# Altium schematic symbol library pyptec-Schlib_jp.SchLib: 316 symbols (part 6 of 7)
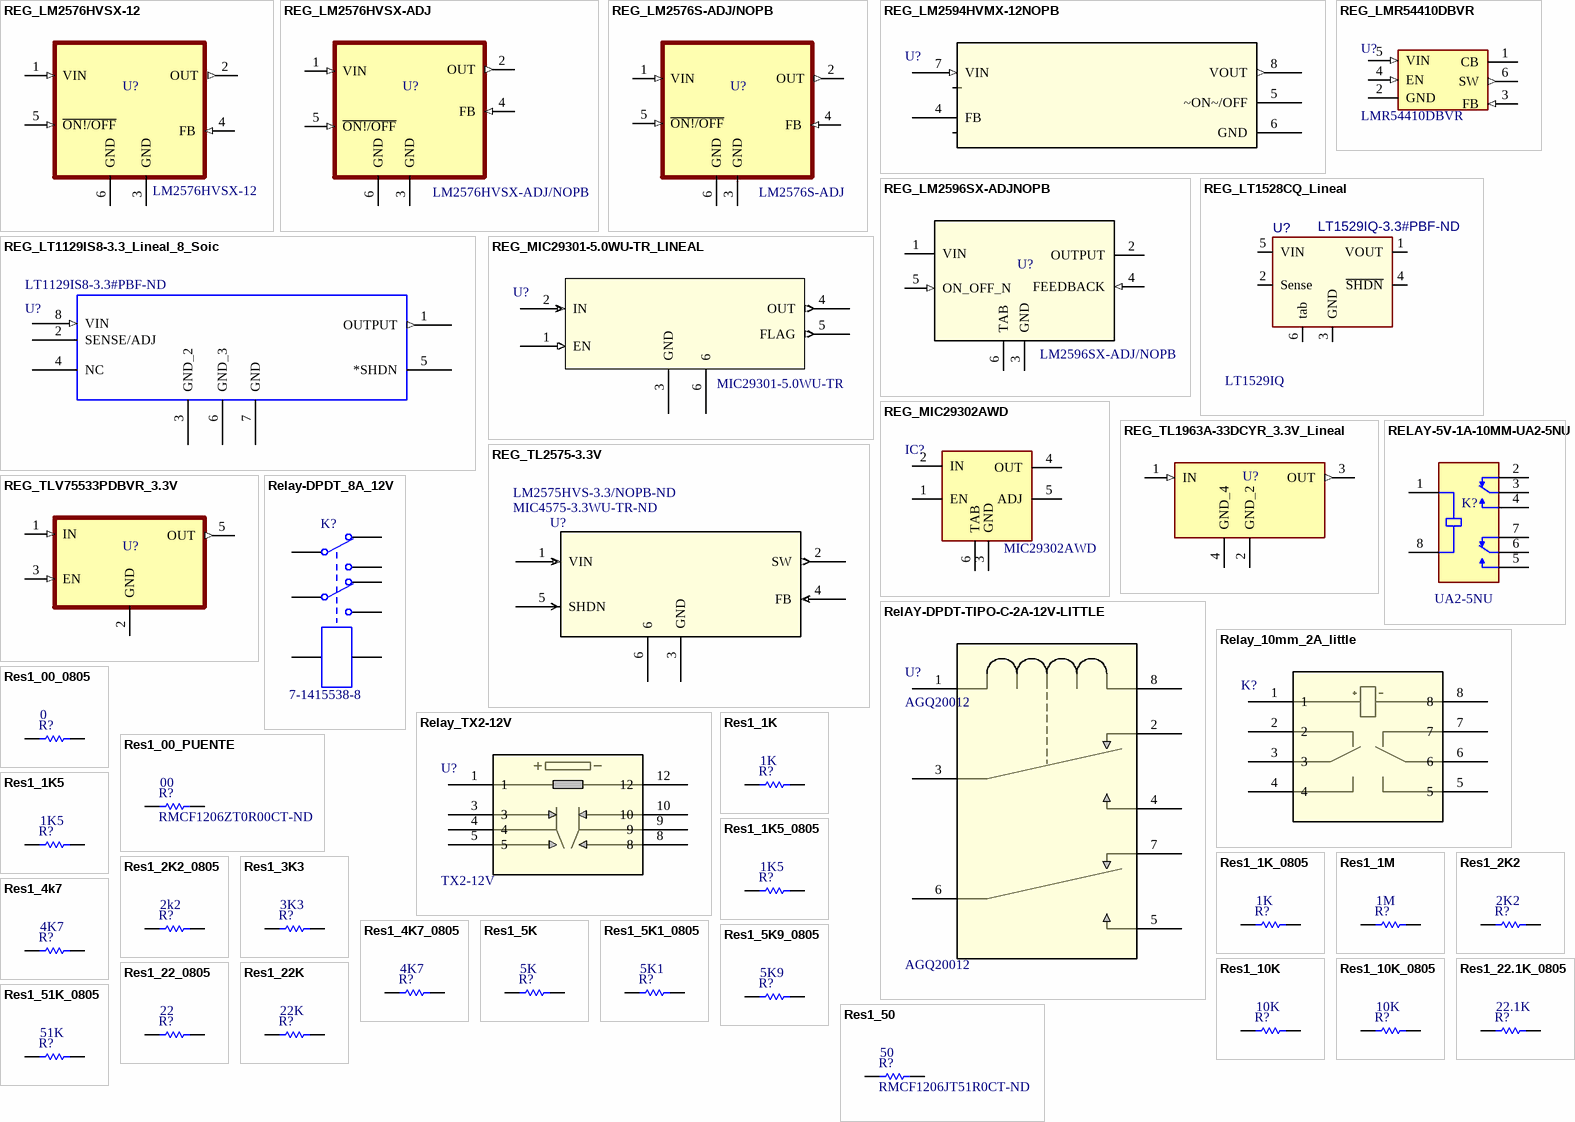
[diagram p15: symbols REG_LM2576HVSX-12 to Res1_51K_0805]

## Res1_1K
designator R?, comment value 1K  (hidden comment: 311-1.00KFRCT-ND)
RES 1K OH1 kOhms ±1% 0.25W, 1/4W Resistencia en microprocesador 1206 (3216 métrico) Resistente a la humedad Película gruesaM 1% 1/4W 1206; Manufacturer: Panasonic; Manufacturer Part Number: ERJ-8ENF5232V; Resistance: 52.3kR; Power Rating: 250mW; Voltage Rating: 200V; Temperature Coefficient: 100ppm/°C; Published: 8-Jun-2000; LatestRevisionDate: 17-Jul-2002; LatestRevisionNote: Re-released for DXP Platform.; PackageReference: AXIAL-0.3; Publisher: Altium Limited; PackageDescription: Axial Device, Thru-Hole; 2 Leads; 0.3 in Pin Spacing; Mount: Surface Mount; Case/Package: 1206; Case Code (Imperial): 1206; Case Code (Metric): 3216; Contact Plating: Tin; Min Operating Temperature: -55°C; Max Operating Temperature: 155°C; Tolerance: 1%; Packaging: Tape and Reel; Package Quantity: 1; Composition: Thick Film; Number of Terminations: 2; Max Power Dissipation: 250mW; Voltage Rating (DC): 200V; Features: Automotive AEC-Q200; Military Standard: Not; Termination: SMD/SMT; Length: 3.2mm; Height: 0.028inch; Width: 1.6mm; Depth: 1.6mm; REACH SVHC: Yes; ComponentLink1URL: http://www.farnell.com/datasheets/1678782.pdf?src-supplier=Farnell; ComponentLink1Description: http://www.farnell.com/datasheets/1678782.pdf?src-supplier=Farnell; ComponentLink2URL: http://industrial.panasonic.com/www-data/pdf/AOA0000/AOA0000CE2.pdf?src-supplier=Mouser; ComponentLink2Description: http://industrial.panasonic.com/www-data/pdf/AOA0000/AOA0000CE2.pdf?src-supplier=Mouser; Supplier 1: Digi-Key; Link: https://www.digikey.com/es/products/detail/yageo/RC1206FR-071KL/728387?s=N4IgTCBcDaIMwEYEFoEDoAMGDSAxASgMIAqyAcgCIgC6AvkA; Digi_Key_Part_Number: 311-1.00KFRCT-ND; ComponentLink3Description: RES 1K OHM 1% 1/4W 1206; ComponentLink3URL: https://www.digikey.com/es/products/detail/yageo/RC1206FR-071KL/728387?s=N4IgTCBcDaIMwEYEFoEDoAMGDSAxASgMIAqyAcgCIgC6AvkA; Price: 0,10; Supplier Part Number 1: 13-RC1206FR-132K2LDKR-ND
footprint RES1206
pins: 1, 2

## Res1_1K5
designator R?, comment value 1K5  (hidden comment: CRCW12061K50FKEAC)
1.5 kOhms ±1% 0.25W, 1/4W Resistencia en microprocesador 1206 (3216 métrico) Película gruesa; Manufacturer: Panasonic; Manufacturer Part Number: ERJ-8ENF5232V; Digi_Key_Part_Number: 541-4184-1-ND; Resistance: 52.3kR; Power Rating: 250mW; Voltage Rating: 200V; Temperature Coefficient: 100ppm/°C; Published: 8-Jun-2000; LatestRevisionDate: 17-Jul-2002; LatestRevisionNote: Re-released for DXP Platform.; PackageReference: AXIAL-0.3; Publisher: Altium Limited; PackageDescription: Axial Device, Thru-Hole; 2 Leads; 0.3 in Pin Spacing; Mount: Surface Mount; Case/Package: 1206; Case Code (Imperial): 1206; Case Code (Metric): 3216; Contact Plating: Tin; Min Operating Temperature: -55°C; Max Operating Temperature: 155°C; Tolerance: 1%; Packaging: Tape and Reel; Package Quantity: 1; Composition: Thick Film; Number of Terminations: 2; Max Power Dissipation: 250mW; Voltage Rating (DC): 200V; Features: Automotive AEC-Q200; Military Standard: Not; Termination: SMD/SMT; Length: 3.2mm; Height: 0.028inch; Width: 1.6mm; Depth: 1.6mm; REACH SVHC: Yes; Supplier 1: Digi-Key; Link: https://www.digikey.com/es/products/detail/vishay-dale/CRCW12061K50FKEAC/7928606; ComponentLink1Description: CRCW12061K50FKEAC; ComponentLink1URL: https://www.digikey.com/es/products/detail/vishay-dale/CRCW12061K50FKEAC/7928606; Supplier Part Number 1: 13-RC1206FR-132K2LDKR-ND; Price: 0,10
footprint RES1206
pins: 1, 2

## Res1_1K5_0805
designator R?, comment value 1K5  (hidden comment: RNCP0805FTD1K50)
1.5 kOhms ±1% 0.25W, 1/4W Resistencia en microprocesador 0805 (2012 métrico) Anti-azufre Película delgada; Digi_Key_Part_Number: RNCP0805FTD1K50CT-ND; Link: https://www.digikey.com/es/products/detail/stackpole-electronics-inc/RNCP0805FTD1K50/2240233; Price: 0,10; ComponentLink1Description: RES 1.5K OHM 1% 1/4W 0805; ComponentLink1URL: https://www.digikey.com/es/products/detail/stackpole-electronics-inc/RNCP0805FTD1K50/2240233; LCSC Part: C160067; Mouser Part: 708-RNCP0805FTD1K50; Price JLCPCB: 0,01
footprint RES0805
pins: 1, 2

## Res1_1K_0805
designator R?, comment value 1K  (hidden comment: RK73B2ATTD102J)
1 kOhms ±5% 0.25W, 1/4W Resistencia en microprocesador 0805 (2012 métrico) AEC-Q200 automotriz Película gruesa; Digi_Key_Part_Number: 2019-RK73B2ATTD102JCT-ND; Link: https://www.digikey.com/es/products/detail/koa-speer-electronics-inc/RK73B2ATTD102J/10236529; Price: 0,10; ComponentLink1Description: RES 1K OHM 5% 1/4W 0805; ComponentLink1URL: https://www.digikey.com/es/products/detail/koa-speer-electronics-inc/RK73B2ATTD102J/10236529; LCSC Part: C873867; Price JLCPCB: 0,01; Mouser Part: 660-RK73B2ATTD102J
footprint RES0805
pins: 1, 2

## Res1_1M
designator R?, comment value 1M  (hidden comment: YAG2022CT-ND)
RES SMD 1M OHM 0.1% 1/4W 1206; Manufacturer: Panasonic; Manufacturer Part Number: ERJ-8ENF5232V; Resistance: 52.3kR; Tolerance: 1%; Power Rating: 250mW; Voltage Rating: 200V; Temperature Coefficient: 100ppm/°C; Published: 8-Jun-2000; LatestRevisionDate: 17-Jul-2002; LatestRevisionNote: Re-released for DXP Platform.; PackageReference: AXIAL-0.3; Publisher: Altium Limited; PackageDescription: Axial Device, Thru-Hole; 2 Leads; 0.3 in Pin Spacing; Mount: Surface Mount; Case/Package: 1206; Case Code (Imperial): 1206; Case Code (Metric): 3216; Contact Plating: Tin; Min Operating Temperature: -55°C; Max Operating Temperature: 155°C; Packaging: Tape and Reel; Package Quantity: 1; Composition: Thick Film; Number of Terminations: 2; Max Power Dissipation: 250mW; Voltage Rating (DC): 200V; Features: Automotive AEC-Q200; Military Standard: Not; Termination: SMD/SMT; Length: 3.2mm; Height: 0.028inch; Width: 1.6mm; Depth: 1.6mm; REACH SVHC: Yes; ComponentLink1URL: http://www.farnell.com/datasheets/1678782.pdf?src-supplier=Farnell; ComponentLink1Description: http://www.farnell.com/datasheets/1678782.pdf?src-supplier=Farnell; ComponentLink2URL: http://industrial.panasonic.com/www-data/pdf/AOA0000/AOA0000CE2.pdf?src-supplier=Mouser; ComponentLink2Description: http://industrial.panasonic.com/www-data/pdf/AOA0000/AOA0000CE2.pdf?src-supplier=Mouser; Supplier 1: Digi-Key; Digi_Key_Part_Number: YAG2022CT-ND; Link: https://www.digikey.com/es/products/detail/RT1206BRD071ML/YAG2022DKR-ND/5140399?utm_campaign=buynow&utm_medium=aggregator&curr=usd&utm_source=octopart; Supplier Part Number 1: YAG2022DKR-ND; Price: 0,10
footprint RES1206
pins: 1, 2

## Res1_2K2
designator R?, comment value 2K2  (hidden comment: 311-2.20KFRCT-ND)
RES 2.2K OHM 1% 1/4W 1206; Link: https://www.digikey.com/es/products/detail/RC1206FR-072K2L/311-2.20KFRDKR-ND/734518?utm_campaign=buynow&utm_medium=aggregator&curr=usd&utm_source=octopart; Digi_Key_Part_Number: 311-2.20KFRCT-ND; ComponentLink3Description: RES 2.2K OHM 1% 1/4W 1206; ComponentLink3URL: https://www.digikey.com/es/products/detail/yageo/RC1206FR-072K2L/728624?s=N4IgTCBcDaIMwEYEFowDowAYDSAxASgMIAqyAcgCIgC6AvkA; Price: 0,10; JLCPCB Part: *
footprint RES1206
pins: 1, 2

## Res1_2K2_0805
designator R?, comment value 2k2  (hidden comment: SR0805JR-7W2K2L)
2.2 kOhms ±5% 0.25W, 1/4W Resistencia en microprocesador 0805 (2012 métrico) AEC-Q200 automotriz, protección contra impulsos Película gruesa; Digi_Key_Part_Number: YAG6054CT-ND; Link: https://www.digikey.com/es/products/detail/yageo/SR0805JR-7W2K2L/5948720; Price: 0,20; ComponentLink1Description: RES 2.2K OHM 5% 1/4W 0805; ComponentLink1URL: https://www.digikey.com/es/products/detail/yageo/SR0805JR-7W2K2L/5948720; LCSC Part: C17520; Price JLCPCB: 0,01; Mouser Part: 603-SR0805JR-7W2K2L
footprint RES0805
pins: 1, 2

## Res1_3K3
designator R?, comment value 3K3  (hidden comment: 311-3.3KERCT-ND)
3.3 kOhms ±5% 0.25W, 1/4W Chip Resistor 1206 (3216 Metric) Moisture Resistant Thick Film; Manufacturer: Panasonic; Manufacturer Part Number: ERJ-8ENF5232V; Resistance: 52.3kR; Tolerance: 1%; Power Rating: 250mW; Voltage Rating: 200V; Temperature Coefficient: 100ppm/°C; Published: 8-Jun-2000; LatestRevisionDate: 17-Jul-2002; LatestRevisionNote: Re-released for DXP Platform.; PackageReference: AXIAL-0.3; Publisher: Altium Limited; PackageDescription: Axial Device, Thru-Hole; 2 Leads; 0.3 in Pin Spacing; Mount: Surface Mount; Case/Package: 1206; Case Code (Imperial): 1206; Case Code (Metric): 3216; Contact Plating: Tin; Min Operating Temperature: -55°C; Max Operating Temperature: 155°C; Packaging: Tape and Reel; Package Quantity: 1; Composition: Thick Film; Number of Terminations: 2; Max Power Dissipation: 250mW; Voltage Rating (DC): 200V; Features: Automotive AEC-Q200; Military Standard: Not; Termination: SMD/SMT; Length: 3.2mm; Height: 0.028inch; Width: 1.6mm; Depth: 1.6mm; REACH SVHC: Yes; ComponentLink1URL: http://www.farnell.com/datasheets/1678782.pdf?src-supplier=Farnell; ComponentLink1Description: http://www.farnell.com/datasheets/1678782.pdf?src-supplier=Farnell; ComponentLink2URL: http://industrial.panasonic.com/www-data/pdf/AOA0000/AOA0000CE2.pdf?src-supplier=Mouser; ComponentLink2Description: http://industrial.panasonic.com/www-data/pdf/AOA0000/AOA0000CE2.pdf?src-supplier=Mouser; Supplier 1: Digi-Key; Digi_Key_Part_Number: 311-3.3KERCT-ND; Link: https://www.digikey.com/es/products/detail/RC1206JR-073K3L/311-3.3KERDKR-ND/735161?utm_campaign=buynow&utm_medium=aggregator&curr=usd&utm_source=octopart; ComponentLink3Description: RES 3.3K OHM 5% 1/4W 1206; ComponentLink3URL: https://www.digikey.com/es/products/detail/RC1206JR-073K3L/311-3.3KERDKR-ND/735161?utm_campaign=buynow&utm_medium=aggregator&curr=usd&utm_source=octopart; Supplier Part Number 1: 311-3.3KERDKR-ND; Price: 0,10
footprint RES1206
pins: 1, 2

## Res1_4k7
designator R?, comment value 4K7  (hidden comment: RMCF1206FT4K70CT-ND)
RES 4.7K OHM 1% 1/4W 1206; Manufacturer: Panasonic; Manufacturer Part Number: ERJ-8ENF5232V; Resistance: 52.3kR; Power Rating: 250mW; Voltage Rating: 200V; Temperature Coefficient: 100ppm/°C; Published: 8-Jun-2000; LatestRevisionDate: 17-Jul-2002; LatestRevisionNote: Re-released for DXP Platform.; PackageReference: AXIAL-0.3; Publisher: Altium Limited; PackageDescription: Axial Device, Thru-Hole; 2 Leads; 0.3 in Pin Spacing; Mount: Surface Mount; Case/Package: 1206; Case Code (Imperial): 1206; Case Code (Metric): 3216; Contact Plating: Tin; Min Operating Temperature: -55°C; Max Operating Temperature: 155°C; Tolerance: 1%; Packaging: Tape and Reel; Package Quantity: 1; Composition: Thick Film; Number of Terminations: 2; Max Power Dissipation: 250mW; Voltage Rating (DC): 200V; Features: Automotive AEC-Q200; Military Standard: Not; Termination: SMD/SMT; Length: 3.2mm; Height: 0.028inch; Width: 1.6mm; Depth: 1.6mm; REACH SVHC: Yes; ComponentLink1URL: http://www.farnell.com/datasheets/1678782.pdf?src-supplier=Farnell; ComponentLink1Description: http://www.farnell.com/datasheets/1678782.pdf?src-supplier=Farnell; ComponentLink2URL: http://industrial.panasonic.com/www-data/pdf/AOA0000/AOA0000CE2.pdf?src-supplier=Mouser; ComponentLink2Description: http://industrial.panasonic.com/www-data/pdf/AOA0000/AOA0000CE2.pdf?src-supplier=Mouser; Supplier 1: Digi-Key; Link: https://www.digikey.com/es/products/detail/RMCF1206FT4K70/RMCF1206FT4K70DKR-ND/1943603?utm_campaign=buynow&utm_medium=aggregator&curr=usd&utm_source=octopart; Digi_Key_Part_Number: RMCF1206FT4K70CT-ND; ComponentLink3Description: RES 4.7K OHM 1% 1/4W 1206; ComponentLink3URL: https://www.digikey.com/es/products/detail/stackpole-electronics-inc/RMCF1206FT4K70/1754008?s=N4IgTCBcDaIEoFkDCAxAjGADANhQFQBYBpAdkyTwFoA5AERAF0BfIA; Price: 0,10; Supplier Part Number 1: RMCF1206FT4K70DKR-ND
footprint RES1206
pins: 1, 2

## Res1_4K7_0805
designator R?, comment value 4K7  (hidden comment: CRCW08054K70FKEAC)
4.7 kOhms ±1% 0.125W, 1/8W Chip Resistor 0805 (2012 Metric) Thick Film; Digi_Key_Part_Number: 541-4131-1-ND; Link: https://www.digikey.com/en/products/detail/vishay-dale/CRCW08054K70FKEAC/7928553; Price: 0,10; ComponentLink1Description: RES 4.7K OHM 1% 1/8W 0805; ComponentLink1URL: https://www.digikey.com/en/products/detail/vishay-dale/CRCW08054K70FKEAC/7928553; LCSC Part: C844630; Mouser Part: 71-CRCW08054K70FKEAC; Price JLCPCB: 0,01
footprint RES0805
pins: 1, 2

## Res1_5K
designator R?, comment value 5K  (hidden comment: YAG5090CT-ND)
5 kOhms ±0.1% 0.25W, 1/4W Resistencia en microprocesador 1206 (3216 métrico) Película delgada; Manufacturer: Panasonic; Manufacturer Part Number: ERJ-8ENF5232V; Resistance: 52.3kR; Tolerance: 1%; Power Rating: 250mW; Voltage Rating: 200V; Temperature Coefficient: 100ppm/°C; Published: 8-Jun-2000; LatestRevisionDate: 17-Jul-2002; LatestRevisionNote: Re-released for DXP Platform.; PackageReference: AXIAL-0.3; Publisher: Altium Limited; PackageDescription: Axial Device, Thru-Hole; 2 Leads; 0.3 in Pin Spacing; Mount: Surface Mount; Case/Package: 1206; Case Code (Imperial): 1206; Case Code (Metric): 3216; Contact Plating: Tin; Min Operating Temperature: -55°C; Max Operating Temperature: 155°C; Packaging: Tape and Reel; Package Quantity: 1; Composition: Thick Film; Number of Terminations: 2; Max Power Dissipation: 250mW; Voltage Rating (DC): 200V; Features: Automotive AEC-Q200; Military Standard: Not; Termination: SMD/SMT; Length: 3.2mm; Height: 0.028inch; Width: 1.6mm; Depth: 1.6mm; REACH SVHC: Yes; ComponentLink1URL: http://www.farnell.com/datasheets/1678782.pdf?src-supplier=Farnell; ComponentLink1Description: http://www.farnell.com/datasheets/1678782.pdf?src-supplier=Farnell; ComponentLink2URL: http://industrial.panasonic.com/www-data/pdf/AOA0000/AOA0000CE2.pdf?src-supplier=Mouser; ComponentLink2Description: http://industrial.panasonic.com/www-data/pdf/AOA0000/AOA0000CE2.pdf?src-supplier=Mouser; Supplier 1: Digi-Key; Digi_Key_Part_Number: YAG5090CT-ND; Link: https://www.digikey.com/es/products/detail/yageo/RT1206BRD075KL/5936961?s=N4IgTCBcDaIJoEEDiBWADATjQYQCoFoA5AERAF0BfIA; ComponentLink3Description: RES SMD 5K OHM 0.1% 1/4W 1206; ComponentLink3URL: https://www.digikey.com/es/products/detail/yageo/RT1206BRD075KL/5936961?s=N4IgTCBcDaIJoEEDiBWADATjQYQCoFoA5AERAF0BfIA; Supplier Part Number 1: RT1206BRD075KL-ND; Price: 0,10
footprint RES1206
pins: 1, 2

## Res1_5K1_0805
designator R?, comment value 5K1  (hidden comment: RC0805JR-075K1L)
5.1 kOhms ±5% 0.125W, 1/8W Chip Resistor 0805 (2012 Metric) Moisture Resistant Thick Film; Digi_Key_Part_Number: 311-5.1KARCT-ND; Link: https://www.digikey.com/en/products/detail/yageo/RC0805JR-075K1L/728338; Price: 0,10; ComponentLink1Description: RES 5.1K OHM 5% 1/8W 0805; ComponentLink1URL: https://www.digikey.com/en/products/detail/yageo/RC0805JR-075K1L/728338; LCSC Part: C105874; Mouser Part: 603-RC0805JR-075K1L; Price JLCPCB: 0,01
footprint RES0805
pins: 1, 2

## Res1_5K9_0805
designator R?, comment value 5K9  (hidden comment: RC0805FR-075K9L)
5.9 kOhms ±1% 0.125W, 1/8W Resistencia en microprocesador 0805 (2012 métrico) Resistente a la humedad Película gruesa; Digi_Key_Part_Number: 311-5.90KCRCT-ND; Link: https://www.digikey.com/es/products/detail/yageo/RC0805FR-075K9L/728010; Price: 0,10; LCSC Part: C17730; Mouser Part: 603-RC0805FR-075K9L; Price JLCPCB: 0,01; ComponentLink1Description: RES 5.9K OHM 1% 1/8W 0805; ComponentLink1URL: https://www.digikey.com/es/products/detail/yageo/RC0805FR-075K9L/728010
footprint RES0805
pins: 1, 2

## Res1_10K
designator R?, comment value 10K  (hidden comment: A129822CT-ND)
10 kOhms ±1% 0.25W, 1/4W Resistencia en microprocesador 1206 (3216 métrico) AEC-Q200 automotriz, resistente a la humedad Película gruesa; Manufacturer: Panasonic; Manufacturer Part Number: ERJ-8ENF5232V; Resistance: 52.3kR; Power Rating: 250mW; Voltage Rating: 200V; Temperature Coefficient: 100ppm/°C; Published: 8-Jun-2000; LatestRevisionDate: 17-Jul-2002; LatestRevisionNote: Re-released for DXP Platform.; PackageReference: AXIAL-0.3; Publisher: Altium Limited; PackageDescription: Axial Device, Thru-Hole; 2 Leads; 0.3 in Pin Spacing; Mount: Surface Mount; Case/Package: 1206; Case Code (Imperial): 1206; Case Code (Metric): 3216; Contact Plating: Tin; Min Operating Temperature: -55°C; Max Operating Temperature: 155°C; Tolerance: 1%; Packaging: Tape and Reel; Package Quantity: 1; Composition: Thick Film; Number of Terminations: 2; Max Power Dissipation: 250mW; Voltage Rating (DC): 200V; Features: Automotive AEC-Q200; Military Standard: Not; Termination: SMD/SMT; Length: 3.2mm; Height: 0.028inch; Width: 1.6mm; Depth: 1.6mm; REACH SVHC: Yes; ComponentLink1URL: http://www.farnell.com/datasheets/1678782.pdf?src-supplier=Farnell; ComponentLink1Description: http://www.farnell.com/datasheets/1678782.pdf?src-supplier=Farnell; ComponentLink2URL: http://industrial.panasonic.com/www-data/pdf/AOA0000/AOA0000CE2.pdf?src-supplier=Mouser; ComponentLink2Description: http://industrial.panasonic.com/www-data/pdf/AOA0000/AOA0000CE2.pdf?src-supplier=Mouser; Supplier 1: Digi-Key; Link: https://www.digikey.com/es/products/detail/CRGCQ1206F10K/A129822DKR-ND/8578884?utm_campaign=buynow&utm_medium=aggregator&curr=usd&utm_source=octopart; Digi_Key_Part_Number: A129822CT-ND; ComponentLink3Description: RES 10K OHM 1% 1/4W 1206; ComponentLink3URL: https://www.digikey.com/es/products/detail/te-connectivity-passive-product/CRGCQ1206F10K/8576424?s=N4IgTCBcDaIIIEYwE4AcYwGEAqBaAcgCIgC6AvkA; Supplier Part Number 1: A129822DKR-ND; Price: 0,10
footprint RES1206
pins: 1, 2

## Res1_10K_0805
designator R?, comment value 10K  (hidden comment: ERJ-6GEYJ103V)
10 kOhms ±5% 0.125W, 1/8W Chip Resistor 0805 (2012 Metric) Automotive AEC-Q200 Thick Film; Digi_Key_Part_Number: P10KACT-ND; Link: https://www.digikey.com/en/products/detail/panasonic-electronic-components/ERJ-6GEYJ103V/83062; Price: 0,10; ComponentLink1Description: RES SMD 10K OHM 5% 1/8W 0805; ComponentLink1URL: https://www.digikey.com/en/products/detail/panasonic-electronic-components/ERJ-6GEYJ103V/83062; LCSC Part: C180849; Mouser Part: 667-ERJ-6GEYJ103V; Price JLCPCB: 0,01
footprint RES0805
pins: 1, 2

## Res1_22.1K_0805
designator R?, comment value 22.1K  (hidden comment: RMCF0805FT22K1)
22.1 kOhms ±1% 0.125W, 1/8W Chip Resistor 0805 (2012 Metric) Automotive AEC-Q200 Thick Film; Digi_Key_Part_Number: RMCF0805FT22K1CT-ND; Link: https://www.digikey.com/en/products/detail/stackpole-electronics-inc/RMCF0805FT22K1/1760211; Price: 0,10; LCSC Part: C17552; Price JLCPCB: 0,01; ComponentLink1Description: RES 22.1K OHM 1% 1/8W 0805; ComponentLink1URL: https://www.digikey.com/en/products/detail/stackpole-electronics-inc/RMCF0805FT22K1/1760211
footprint RES0805
pins: 1, 2

## Res1_22_0805
designator R?, comment value 22  (hidden comment: CR0805-JW-220ELF)
22 Ohms ±5% 0.125W, 1/8W Resistencia en microprocesador 0805 (2012 métrico) Resistente a la humedad Película gruesa; Digi_Key_Part_Number: 118-CR0805-JW-220ELFCT-ND; Link: https://www.digikey.com/es/products/detail/bourns-inc/CR0805-JW-220ELF/3785269; Price: 0,10; LCSC Part: C17561; Price JLCPCB: 0,01; ComponentLink1Description: RES SMD 22 OHM 5% 1/8W 0805; ComponentLink1URL: https://www.digikey.com/es/products/detail/bourns-inc/CR0805-JW-220ELF/3785269
footprint RES0805
pins: 1, 2

## Res1_22K
designator R?, comment value 22K  (hidden comment: 311-22KERCT-ND)
RES 22K OHM 5% 1/4W 1206; Manufacturer: Panasonic; Manufacturer Part Number: ERJ-8ENF5232V; Resistance: 52.3kR; Tolerance: 1%; Power Rating: 250mW; Voltage Rating: 200V; Temperature Coefficient: 100ppm/°C; Published: 8-Jun-2000; LatestRevisionDate: 17-Jul-2002; LatestRevisionNote: Re-released for DXP Platform.; PackageReference: AXIAL-0.3; Publisher: Altium Limited; PackageDescription: Axial Device, Thru-Hole; 2 Leads; 0.3 in Pin Spacing; Mount: Surface Mount; Case/Package: 1206; Case Code (Imperial): 1206; Case Code (Metric): 3216; Contact Plating: Tin; Min Operating Temperature: -55°C; Max Operating Temperature: 155°C; Packaging: Tape and Reel; Package Quantity: 1; Composition: Thick Film; Number of Terminations: 2; Max Power Dissipation: 250mW; Voltage Rating (DC): 200V; Features: Automotive AEC-Q200; Military Standard: Not; Termination: SMD/SMT; Length: 3.2mm; Height: 0.028inch; Width: 1.6mm; Depth: 1.6mm; REACH SVHC: Yes; ComponentLink1URL: http://www.farnell.com/datasheets/1678782.pdf?src-supplier=Farnell; ComponentLink1Description: http://www.farnell.com/datasheets/1678782.pdf?src-supplier=Farnell; ComponentLink2URL: http://industrial.panasonic.com/www-data/pdf/AOA0000/AOA0000CE2.pdf?src-supplier=Mouser; ComponentLink2Description: http://industrial.panasonic.com/www-data/pdf/AOA0000/AOA0000CE2.pdf?src-supplier=Mouser; Supplier 1: Digi-Key; Digi_Key_Part_Number: 311-22KERCT-ND; Link: https://www.digikey.com/es/products/detail/RC1206JR-0722KL/311-22KERDKR-ND/735148?utm_campaign=buynow&utm_medium=aggregator&curr=usd&utm_source=octopart; Supplier Part Number 1: 311-22KERDKR-ND; Price: 0,10
footprint RES1206
pins: 1, 2

## Res1_50
designator R?, comment RMCF1206JT51R0CT-ND  value 50
51 Ohms ±5% 0.25W, 1/4W Resistencia en microprocesador 1206 (3216 métrico) AEC-Q200 automotriz Película gruesa; Manufacturer: Panasonic; Manufacturer Part Number: ERJ-8ENF5232V; Resistance: 52.3kR; Tolerance: 1%; Power Rating: 250mW; Voltage Rating: 200V; Temperature Coefficient: 100ppm/°C; Published: 8-Jun-2000; LatestRevisionDate: 17-Jul-2002; LatestRevisionNote: Re-released for DXP Platform.; PackageReference: AXIAL-0.3; Publisher: Altium Limited; PackageDescription: Axial Device, Thru-Hole; 2 Leads; 0.3 in Pin Spacing; Mount: Surface Mount; Case/Package: 1206; Case Code (Imperial): 1206; Case Code (Metric): 3216; Contact Plating: Tin; Min Operating Temperature: -55°C; Max Operating Temperature: 155°C; Packaging: Tape and Reel; Package Quantity: 1; Composition: Thick Film; Number of Terminations: 2; Max Power Dissipation: 250mW; Voltage Rating (DC): 200V; Features: Automotive AEC-Q200; Military Standard: Not; Termination: SMD/SMT; Length: 3.2mm; Height: 0.028inch; Width: 1.6mm; Depth: 1.6mm; REACH SVHC: Yes; ComponentLink1URL: http://www.farnell.com/datasheets/1678782.pdf?src-supplier=Farnell; ComponentLink1Description: http://www.farnell.com/datasheets/1678782.pdf?src-supplier=Farnell; ComponentLink2URL: http://industrial.panasonic.com/www-data/pdf/AOA0000/AOA0000CE2.pdf?src-supplier=Mouser; ComponentLink2Description: http://industrial.panasonic.com/www-data/pdf/AOA0000/AOA0000CE2.pdf?src-supplier=Mouser; Supplier 1: Digi-Key; Link: https://www.digikey.com/es/products/detail/RMCF1206JT51R0/RMCF1206JT51R0DKR-ND/1943667?utm_campaign=buynow&utm_medium=aggregator&curr=usd&utm_source=octopart; Digi_Key_Part_Number: RMCF1206JT51R0CT-ND; ComponentLink3Description: RES 51 OHM 5% 1/4W 1206; ComponentLink3URL: https://www.digikey.com/es/products/detail/stackpole-electronics-inc/RMCF1206JT51R0/1753854?s=N4IgTCBcDaIEoFkDCAxAjGADANgFIBUBWNOTJfAWgDkAREAXQF8g; Supplier Part Number 1: RMCF1206JT51R0DKR-ND; Price: 0,10
footprint RES1206
pins: 1, 2

## Res1_51K_0805
designator R?, comment value 51K  (hidden comment: RMCF0805FT51K0)
51 kOhms ±1% 0.125W, 1/8W Resistencia en microprocesador 0805 (2012 métrico) AEC-Q200 automotriz Película gruesa; Digi_Key_Part_Number: RMCF0805FT51K0CT-ND; Link: https://www.digikey.com/es/products/detail/stackpole-electronics-inc/RMCF0805FT51K0/1713219; Price: 0,10; LCSC Part: C17737; Mouser Part: 708-RMCF0805FT51K0; Price JLCPCB: 0,01; ComponentLink1Description: RES 51K OHM 1% 1/8W 0805; ComponentLink1URL: https://www.digikey.com/es/products/detail/stackpole-electronics-inc/RMCF0805FT51K0/1713219
footprint RES0805
pins: 1, 2

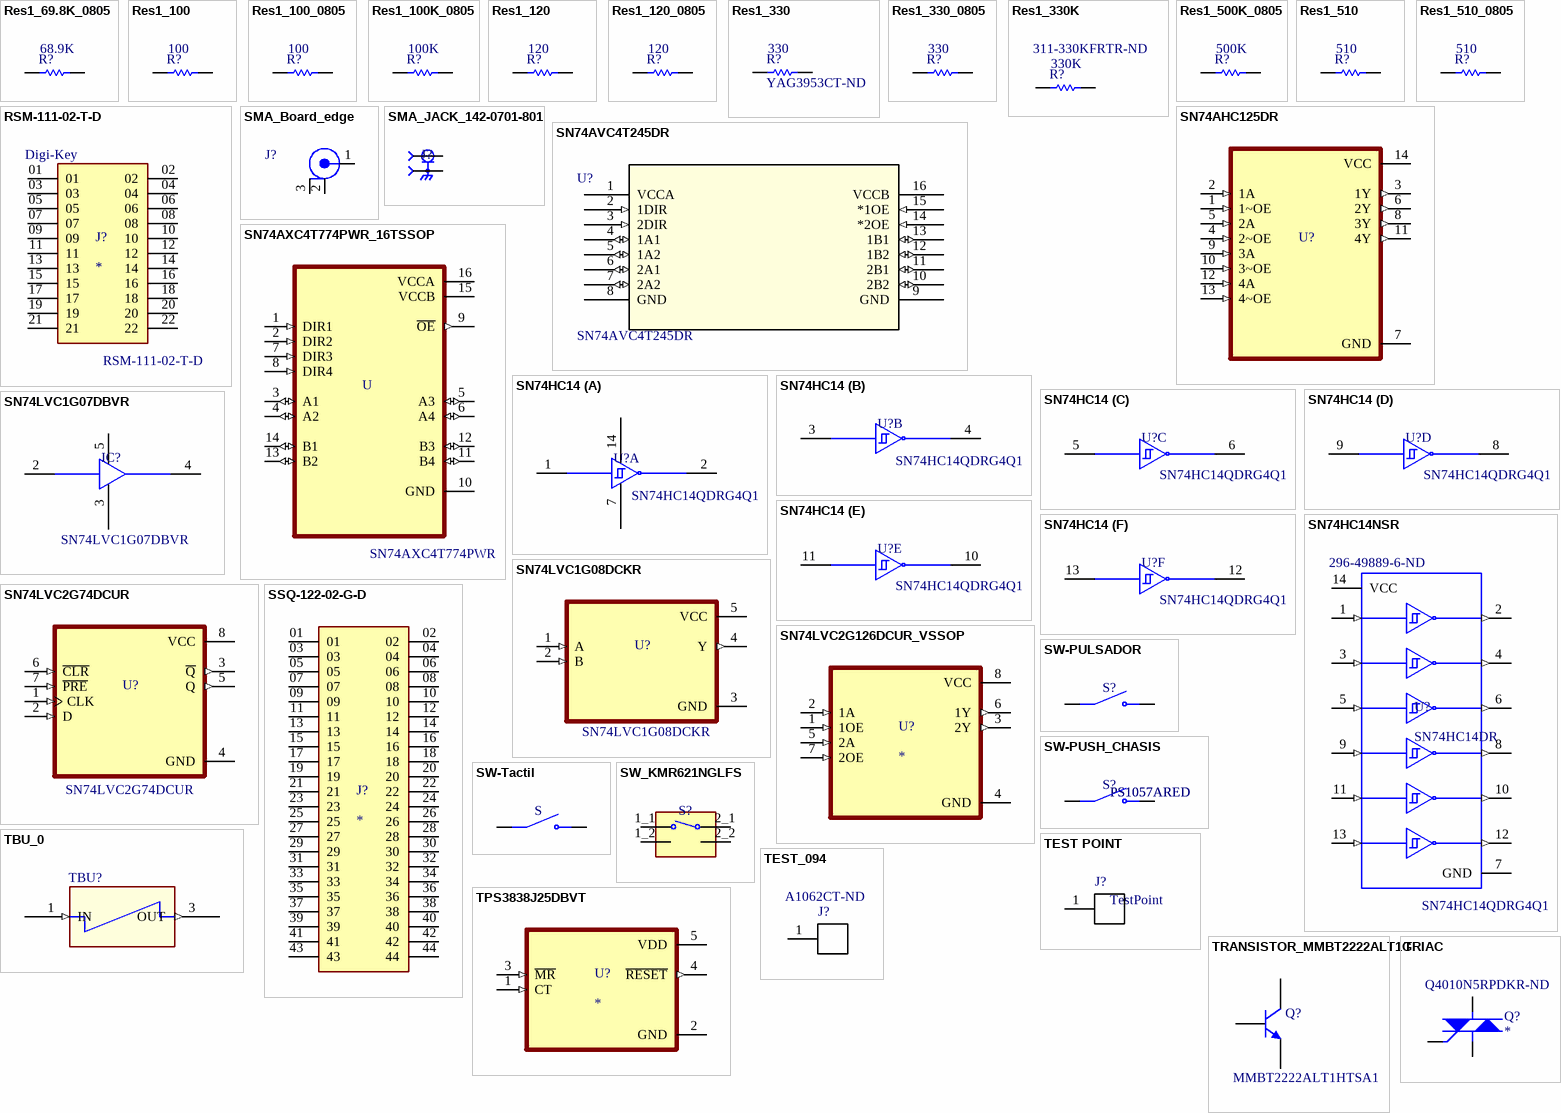
[diagram p9: symbols Res1_69.8K_0805 to TRIAC]

## Res1_69.8K_0805
designator R?, comment value 68.9K  (hidden comment: RC0805FR-0769K8L)
69.8 kOhms ±1% 0.125W, 1/8W Chip Resistor 0805 (2012 Metric) Moisture Resistant Thick Film; Digi_Key_Part_Number: 311-69.8KCRCT-ND; Link: https://www.digikey.com/en/products/detail/yageo/RC0805FR-0769K8L/728106; Price: 0,10; LCSC Part: C17803; Price JLCPCB: 0,01; ComponentLink1Description: RES 69.8K OHM 1% 1/8W 0805; ComponentLink1URL: https://www.digikey.com/en/products/detail/yageo/RC0805FR-0769K8L/728106
footprint RES0805
pins: 1, 2

## Res1_100
designator R?, comment value 100  (hidden comment: 2019-RK73H2BTTD1000FCT-ND)
100 Ohms ±1% 0.25W, 1/4W Resistencia en microprocesador 1206 (3216 métrico) AEC-Q200 automotriz, resistente a la humedad Película gruesa; Digi_Key_Part_Number: 2019-RK73H2BTTD1000FCT-ND; Link: https://www.digikey.com/es/products/detail/koa-speer-electronics-inc/RK73H2BTTD1000F/10235871; ComponentLink3Description: RES 100 OHM 1% 1/4W 1206; ComponentLink3URL: https://www.digikey.com/es/products/detail/koa-speer-electronics-inc/RK73H2BTTD1000F/10235871?s=N4IgTCBcDa4AwEYCcBaASgaQOwGYASYAQgCrEAiCcVAYgMLEoByZIAugL5A; Price: 0,10; JLCPCB Part: C17901
footprint RES1206
pins: 1, 2

## Res1_100_0805
designator R?, comment value 100  (hidden comment: RK73H2ATTD1000F)
100 Ohms ±1% 0.25W, 1/4W Resistencia en microprocesador 0805 (2012 métrico) AEC-Q200 automotriz Película gruesa; Digi_Key_Part_Number: 2019-RK73H2ATTD1000FCT-ND; Link: https://www.digikey.com/es/products/detail/koa-speer-electronics-inc/RK73H2ATTD1000F/10234036; Price: 0,10; ComponentLink1Description: RES 100 OHM 1% 1/4W 0805; ComponentLink1URL: https://www.digikey.com/es/products/detail/koa-speer-electronics-inc/RK73H2ATTD1000F/10234036; LCSC Part: C17408; Price JLCPCB: 0,01; Mouser Part: 660-RK73H2ATTD1000F
footprint RES0805
pins: 1, 2

## Res1_100K_0805
designator R?, comment value 100K  (hidden comment: RC0805FR-07100KL)
100 kOhms ±1% 0.125W, 1/8W Resistencia en microprocesador 0805 (2012 métrico) Resistente a la humedad Película gruesa; Digi_Key_Part_Number: 311-100KCRCT-ND; Link: https://www.digikey.com/es/products/detail/yageo/RC0805FR-07100KL/727544; Price: 0,10; ComponentLink1Description: RES 100K OHM 1% 1/8W 0805; ComponentLink1URL: https://www.digikey.com/es/products/detail/yageo/RC0805FR-07100KL/727544; LCSC Part: C17407; Mouser Part: 603-RC0805FR-07100KL; Price JLCPCB: 0,01
footprint RES0805
pins: 1, 2

## Res1_120
designator R?, comment value 120  (hidden comment: 311-120ERCT-ND)
120 Ohms ±5% 0.25W, 1/4W Resistencia en microprocesador 1206 (3216 métrico) Resistente a la humedad Película gruesa; Manufacturer: Panasonic; Manufacturer Part Number: ERJ-8ENF5232V; Resistance: 52.3kR; Tolerance: 1%; Power Rating: 250mW; Voltage Rating: 200V; Temperature Coefficient: 100ppm/°C; Published: 8-Jun-2000; LatestRevisionDate: 17-Jul-2002; LatestRevisionNote: Re-released for DXP Platform.; PackageReference: AXIAL-0.3; Publisher: Altium Limited; PackageDescription: Axial Device, Thru-Hole; 2 Leads; 0.3 in Pin Spacing; Mount: Surface Mount; Case/Package: 1206; Case Code (Imperial): 1206; Case Code (Metric): 3216; Contact Plating: Tin; Min Operating Temperature: -55°C; Max Operating Temperature: 155°C; Packaging: Tape and Reel; Package Quantity: 1; Composition: Thick Film; Number of Terminations: 2; Max Power Dissipation: 250mW; Voltage Rating (DC): 200V; Features: Automotive AEC-Q200; Military Standard: Not; Termination: SMD/SMT; Length: 3.2mm; Height: 0.028inch; Width: 1.6mm; Depth: 1.6mm; REACH SVHC: Yes; ComponentLink1URL: http://www.farnell.com/datasheets/1678782.pdf?src-supplier=Farnell; ComponentLink1Description: http://www.farnell.com/datasheets/1678782.pdf?src-supplier=Farnell; ComponentLink2URL: http://industrial.panasonic.com/www-data/pdf/AOA0000/AOA0000CE2.pdf?src-supplier=Mouser; ComponentLink2Description: http://industrial.panasonic.com/www-data/pdf/AOA0000/AOA0000CE2.pdf?src-supplier=Mouser; Link: https://www.digikey.com/es/products/detail/yageo/RC1206JR-07120RL/729215; Digi_Key_Part_Number: 311-120ERCT-ND; ComponentLink3Description: RES 120 OHM 5% 1/4W 1206; ComponentLink3URL: https://www.digikey.com/es/products/detail/yageo/RC1206JR-07120RL/729215?s=N4IgTCBcDaIMwEYEFoFgAwFEBKBhAKsgHIAiIAugL5A; Price: 0,10
footprint RES1206
pins: 1, 2

## Res1_120_0805
designator R?, comment value 120  (hidden comment: RK73B2ATTD121J)
120 Ohms ±5% 0.25W, 1/4W Resistencia en microprocesador 0805 (2012 métrico) AEC-Q200 automotriz Película gruesa; Digi_Key_Part_Number: 2019-RK73B2ATTD121JCT-ND; Link: https://www.digikey.com/es/products/detail/koa-speer-electronics-inc/RK73B2ATTD121J/10236600; Price: 0,10; ComponentLink1Description: RES 120 OHM 5% 1/4W 0805; ComponentLink1URL: https://www.digikey.com/es/products/detail/koa-speer-electronics-inc/RK73B2ATTD121J/10236600; LCSC Part: C316739; Mouser Part: 660-RK73B2ATTD121J; Price JLCPCB: 0,01
footprint RES0805
pins: 1, 2

## Res1_330
designator R?, comment YAG3953CT-ND  value 330
330 Ohms ±5% 0.25W, 1/4W Resistencia en microprocesador 1206 (3216 métrico) AEC-Q200 automotriz, resistente a la humedad Película gruesa; Manufacturer: Panasonic; Manufacturer Part Number: ERJ-8ENF5232V; Resistance: 52.3kR; Tolerance: 1%; Power Rating: 250mW; Voltage Rating: 200V; Temperature Coefficient: 100ppm/°C; Published: 8-Jun-2000; LatestRevisionDate: 17-Jul-2002; LatestRevisionNote: Re-released for DXP Platform.; PackageReference: AXIAL-0.3; Publisher: Altium Limited; PackageDescription: Axial Device, Thru-Hole; 2 Leads; 0.3 in Pin Spacing; Mount: Surface Mount; Case/Package: 1206; Case Code (Imperial): 1206; Case Code (Metric): 3216; Contact Plating: Tin; Min Operating Temperature: -55°C; Max Operating Temperature: 155°C; Packaging: Tape and Reel; Package Quantity: 1; Composition: Thick Film; Number of Terminations: 2; Max Power Dissipation: 250mW; Voltage Rating (DC): 200V; Features: Automotive AEC-Q200; Military Standard: Not; Termination: SMD/SMT; Length: 3.2mm; Height: 0.028inch; Width: 1.6mm; Depth: 1.6mm; REACH SVHC: Yes; ComponentLink1URL: http://www.farnell.com/datasheets/1678782.pdf?src-supplier=Farnell; ComponentLink1Description: http://www.farnell.com/datasheets/1678782.pdf?src-supplier=Farnell; ComponentLink2URL: http://industrial.panasonic.com/www-data/pdf/AOA0000/AOA0000CE2.pdf?src-supplier=Mouser; ComponentLink2Description: http://industrial.panasonic.com/www-data/pdf/AOA0000/AOA0000CE2.pdf?src-supplier=Mouser; Supplier 1: Digi-Key; Digi_Key_Part_Number: YAG3953CT-ND; Link: https://www.digikey.com/es/products/detail/AC1206JR-07330RL/YAG3953CT-ND/6006802?utm_campaign=buynow&utm_medium=aggregator&curr=usd&utm_source=octopart; ComponentLink3Description: RES SMD 330 OHM 5% 1/4W 1206; ComponentLink3URL: https://www.digikey.com/es/products/detail/yageo/AC1206JR-07330RL/5897835?s=N4IgTCBcDaIJoEEDiBmAnAVhQYQCoFoA5AERAF0BfIA; Supplier Part Number 1: YAG3953CT-ND; Price: 0,10
footprint RES1206
pins: 1, 2

## Res1_330_0805
designator R?, comment value 330  (hidden comment: RK73B2ATTD331J)
330 Ohms ±5% 0.25W, 1/4W Resistencia en microprocesador 0805 (2012 métrico) AEC-Q200 automotriz Película gruesa; Digi_Key_Part_Number: 2019-RK73B2ATTD331JCT-ND; Link: https://www.digikey.com/es/products/detail/koa-speer-electronics-inc/RK73B2ATTD331J/10236540; Price: 0,10; ComponentLink1Description: RES 330 OHM 5% 1/4W 0805; ComponentLink1URL: https://www.digikey.com/es/products/detail/koa-speer-electronics-inc/RK73B2ATTD331J/10236540; LCSC Part: C17630; Price JLCPCB: 0,01; Mouser Part: 660-RK73B2ATTD331J
footprint RES0805
pins: 1, 2

## Res1_330K
designator R?, comment value 330K  Supplier Part Number 1: 311-330KFRTR-ND  (hidden comment: 311-330KFRCT-ND)
RES 330K OHM 1% 1/4W 1206; Manufacturer: Panasonic; Manufacturer Part Number: ERJ-8ENF5232V; Resistance: 52.3kR; Power Rating: 250mW; Voltage Rating: 200V; Temperature Coefficient: 100ppm/°C; Published: 8-Jun-2000; LatestRevisionDate: 17-Jul-2002; LatestRevisionNote: Re-released for DXP Platform.; PackageReference: AXIAL-0.3; Publisher: Altium Limited; PackageDescription: Axial Device, Thru-Hole; 2 Leads; 0.3 in Pin Spacing; Mount: Surface Mount; Case/Package: 1206; Case Code (Imperial): 1206; Case Code (Metric): 3216; Contact Plating: Tin; Min Operating Temperature: -55°C; Max Operating Temperature: 155°C; Tolerance: 1%; Packaging: Tape and Reel; Package Quantity: 1; Composition: Thick Film; Number of Terminations: 2; Max Power Dissipation: 250mW; Voltage Rating (DC): 200V; Features: Automotive AEC-Q200; Military Standard: Not; Termination: SMD/SMT; Length: 3.2mm; Height: 0.028inch; Width: 1.6mm; Depth: 1.6mm; REACH SVHC: Yes; ComponentLink1URL: http://www.farnell.com/datasheets/1678782.pdf?src-supplier=Farnell; ComponentLink1Description: http://www.farnell.com/datasheets/1678782.pdf?src-supplier=Farnell; ComponentLink2URL: http://industrial.panasonic.com/www-data/pdf/AOA0000/AOA0000CE2.pdf?src-supplier=Mouser; ComponentLink2Description: http://industrial.panasonic.com/www-data/pdf/AOA0000/AOA0000CE2.pdf?src-supplier=Mouser; Supplier 1: Digi-Key; Digi_Key_Part_Number: 311-330KFRCT-ND; Link: https://www.digikey.com/es/products/detail/RC1206FR-07330KL/311-330KFRTR-ND/728823?utm_campaign=buynow&utm_medium=aggregator&curr=usd&utm_source=octopart; Price: 0,10
footprint RES1206
pins: 1, 2

## Res1_500K_0805
designator R?, comment value 500K  (hidden comment: RNCF0805BTE500K)
500 kOhms ±0.1% 0.125W, 1/8W Resistencia en microprocesador 0805 (2012 métrico) AEC-Q200 automotriz Película delgada; Digi_Key_Part_Number: 311-5.1KARCT-ND; Link: https://www.digikey.com/en/products/detail/yageo/RC0805JR-075K1L/728338; Price: 0,10; ComponentLink1Description: RES SMD 500K OHM 0.1% 1/8W 0805; ComponentLink1URL: https://www.digikey.com/es/products/detail/stackpole-electronics-inc/RNCF0805BTE500K/6240086; LCSC Part: C316218; Mouser Part: 708-RNCF0805BTE500K; Price JLCPCB: 0,0380
footprint RES0805
pins: 1, 2

## Res1_510
designator R?, comment value 510  (hidden comment: RC1206JR-07510RL)
510 Ohms ±5% 0.25W, 1/4W Resistencia en microprocesador 1206 (3216 métrico) Resistente a la humedad Película gruesa; Manufacturer: Panasonic; Manufacturer Part Number: ERJ-8ENF5232V; Digi_Key_Part_Number: 311-510ERCT-ND; Resistance: 52.3kR; Tolerance: 1%; Power Rating: 250mW; Voltage Rating: 200V; Temperature Coefficient: 100ppm/°C; Published: 8-Jun-2000; LatestRevisionDate: 17-Jul-2002; LatestRevisionNote: Re-released for DXP Platform.; PackageReference: AXIAL-0.3; Publisher: Altium Limited; PackageDescription: Axial Device, Thru-Hole; 2 Leads; 0.3 in Pin Spacing; Mount: Surface Mount; Case/Package: 1206; Case Code (Imperial): 1206; Case Code (Metric): 3216; Contact Plating: Tin; Min Operating Temperature: -55°C; Max Operating Temperature: 155°C; Packaging: Tape and Reel; Package Quantity: 1; Composition: Thick Film; Number of Terminations: 2; Max Power Dissipation: 250mW; Voltage Rating (DC): 200V; Features: Automotive AEC-Q200; Military Standard: Not; Termination: SMD/SMT; Length: 3.2mm; Height: 0.028inch; Width: 1.6mm; Depth: 1.6mm; REACH SVHC: Yes; Supplier 1: Digi-Key; Link: https://www.digikey.com/es/products/detail/yageo/RC1206JR-07510RL/729310; Supplier Part Number 1: YAG3953CT-ND; Price: 0,10; ComponentLink1Description: R510; ComponentLink1URL: https://www.digikey.com/es/products/detail/yageo/RC1206JR-07510RL/729310
footprint RES1206
pins: 1, 2

## Res1_510_0805
designator R?, comment value 510  (hidden comment: RK73B2ATTD511J)
510 Ohms ±5% 0.25W, 1/4W Resistencia en microprocesador 0805 (2012 métrico) AEC-Q200 automotriz Película gruesa; Digi_Key_Part_Number: 2019-RK73B2ATTD511JCT-ND; Link: https://www.digikey.com/es/products/detail/koa-speer-electronics-inc/RK73B2ATTD511J/10236462; Price: 0,10; ComponentLink1Description: RES 510 OHM 5% 1/4W 0805; ComponentLink1URL: https://www.digikey.com/es/products/detail/koa-speer-electronics-inc/RK73B2ATTD511J/10236462; LCSC Part: C25317; Mouser Part: 660-RK73B2ATTD511J; Price JLCPCB: 0,01
footprint RES0805
pins: 1, 2

## RSM-111-02-T-D
designator J?  MP: RSM-111-02-T-D  Supplier 1: Digi-Key
Availability: Unavailable; Price: None; Package: None; Value: *; Supplier Part Number 1: 609-3773-ND
footprint SAMTEC_RSM-111-02-T-D
pins: 01, 02, 03, 04, 05, 06, 07, 08, 09, 10, 11, 12, 13, 14, 15, 16, 17, 18, 19, 20, 21, 22

## SMA_Board_edge
designator J?, comment 0732511290  (value not drawn)
SMA Conector Jack, enchufe hembra 50 Ohm Extremo de placa, lanzamiento de extremo (End Launch), montaje de panel Soldadura; Digi_Key_Part_Number: WM9461-ND; Value: 8,90; Link: https://www.digikey.com/es/products/detail/0732511290/WM9461-ND/3878247?utm_campaign=buynow&utm_medium=aggregator&curr=usd&utm_source=octopart; ComponentLink1Description: CONN SMA JACK STR 50OHM EDGE MNT; ComponentLink1URL: https://www.digikey.com/es/products/detail/0732511290/WM9461-ND/3878247?utm_campaign=buynow&utm_medium=aggregator&curr=usd&utm_source=octopart; Price: *; LCSC Part: *; Mouser Part: *; Price JLCPCB: *
footprint SMA_Board Edge
pins: 1 CENTER, 2 SHIELD, 3 SHIELD1

## SMA_JACK_142-0701-801
designator J?, comment 142-0701-801  (value not drawn)
SMA Conector Jack, enchufe hembra 50 Ohms Borde de placa, lanzamiento de extremo Soldadura; Value: 142-0701-801; Digi-Key_Part_Number: J502-ND; ComponentLink1Description: CONN SMA JACK STR 50OHM EDGE MNT; ComponentLink1URL: https://www.digikey.com/es/products/detail/cinch-connectivity-solutions-johnson/142-0701-801/35280; Price: 3,70; LCSC Part: C496550; Mouser Part: *; Price JLCPCB: 0,37; Link: https://www.digikey.com/es/products/detail/cinch-connectivity-solutions-johnson/142-0701-801/35280
footprint CINCH_142-0701-801
pins: 1, S1 2, S2 2, S3 2, S4 2

## SN74AHC125DR
designator U?  (value not drawn)
Buffer, Non-Inverting 4 Element 1 Bit per Element 3-State Output 14-SOIC; MF: Texas Instruments; Check_prices: https://www.snapeda.com/parts/SN74AHC125DR/Texas+Instruments/view-part/?ref=eda; Value: SN74AHC125DR; Availability: In Stock; Price: 0,43; SnapEDA_Link: https://www.snapeda.com/parts/SN74AHC125DR/Texas+Instruments/view-part/?ref=snap; Package: SOIC-14 Texas Instruments; MP: SN74AHC125DR; Purchase-URL: https://pricing.snapeda.com/search/part/SN74AHC125DR/?ref=eda; Link: https://www.digikey.com/en/products/detail/texas-instruments/SN74AHC125DR/376299; Digi-Key_Part_Number: 296-4530-1-ND; ComponentLink1Description: SN74AHC125DR; ComponentLink1URL: https://www.digikey.com/en/products/detail/texas-instruments/SN74AHC125DR/376299
footprint SOIC127P600X175-14N
pins: 1 1~OE (in), 2 1A (in), 3 1Y (out), 4 2~OE (in), 5 2A (in), 6 2Y (out), 7 GND (power), 8 3Y (out), 9 3A (in), 10 3~OE (in), 11 4Y (out), 12 4A (in), 13 4~OE (in), 14 VCC (power)

## SN74AVC4T245DR
designator U?
Translation Transceiver 2 Elemento 2 Bit por elemento 3 estados Output 16-SOIC; Mfr_Name: Texas Instruments; Digi_Key_Part_Number: 296-17930-1-ND; RefDes: RefDes; Type: Type; ComponentLink1Description: SN74AVC4T245DR; ComponentLink1URL: https://www.digikey.com/es/products/detail/texas-instruments/SN74AVC4T245DR/763609; Link: https://www.digikey.com/es/products/detail/texas-instruments/SN74AVC4T245DR/763609; Price: 1,25; Value: SN74AVC4T245DR
footprint D16-L
pins: 1 VCCA (power), 2 1DIR (in), 3 2DIR (in), 4 1A1 (io), 5 1A2 (io), 6 2A1 (io), 7 2A2 (io), 8 GND (power), 9 GND (power), 10 2B2 (io), 11 2B1 (io), 12 1B2 (io), 13 1B1 (io), 14 *2OE (in), 15 *1OE (in), 16 VCCB (power)

## SN74AXC4T774PWR_16TSSOP
designator U, comment SN74AXC4T774PWR
Nivel de voltaje Traductores Bidireccional 1 circuitos 4 canales 310Mbps 16-TSSOP; Digi_Key_Part_Number: 296-SN74AXC4T774PWRCT-ND; MF: Texas Instruments; SnapEDA_Link: https://www.snapeda.com/parts/SN74AXC4T774PWR/Texas%20Instruments/view-part/4246653/?ref=snap; Texas_Instruments-Purchase-URL: https://snapeda.com/shop?store=Texas+Instruments&id=4246653; Price: 1,29; Availability: Unavailable; MP: SN74AXC4T774PWR; Package: TSSOP-16 Texas Instruments; ComponentLink1Description: SN74AXC4T774PWR; ComponentLink1URL: https://www.digikey.com/es/products/detail/texas-instruments/sn74axc4t774pwr/10715472; Link: https://www.digikey.com/es/products/detail/texas-instruments/sn74axc4t774pwr/10715472; Value: SN74AXC4T774PWR
footprint SOP65P640X120-16N
pins: 1 DIR1 (in), 2 DIR2 (in), 3 A1 (io), 4 A2 (io), 5 A3 (io), 6 A4 (io), 7 DIR3 (in), 8 DIR4 (in), 9 ~{OE} (out), 10 GND (power), 11 B4 (io), 12 B3 (io), 13 B2 (io), 14 B1 (io), 15 VCCB (power), 16 VCCA (power)

## SN74HC14
designator U?, comment SN74HC14QDRG4Q1
Inversor IC 6 Canal Gatillo Schmitt 14-SOIC; Digi_Key_Part_Number: 296-49889-1-ND; ComponentLink1Description: SN74HC14QDRG4Q1; ComponentLink1URL: https://www.digikey.com/es/products/detail/texas-instruments/SN74HC14QDRG4Q1/1902723; Link: https://www.digikey.com/es/products/detail/texas-instruments/SN74HC14QDRG4Q1/1902723; Price: 0,76; LCSC Part: C6820; Mouser Part: 595-SN74HC14DR; Price JLCPCB: 0,08; Value: SN74HC14QDRG4Q1
footprint SOIC-14_NB-M
part A pins: 1 A, 2 Y, 7 (power), 14 (power)
part B pins: 3 A, 4 Y
part C pins: 5 A, 6 Y
part D pins: 8 Y, 9 A
part E pins: 10 Y, 11 A
part F pins: 12 Y, 13 A

## SN74HC14NSR
designator U?, comment SN74HC14DR  value SN74HC14QDRG4Q1  Supplier Part Number 1: 296-49889-6-ND
Inverter IC 6 Channel Schmitt Trigger 14-SOIC; Digi_Key_Part_Number: 296-49889-1-ND; MP: SN74HC14NSR; Price: 0,93; Package: None; Availability: Unavailable; ComponentLink1Description: SN74HC14QDRG4Q1; ComponentLink1URL: https://www.digikey.com/es/products/detail/texas-instruments/SN74HC14QDRG4Q1/1902723; Supplier 1: Digi-Key; Link: https://www.digikey.com/es/products/detail/texas-instruments/SN74HC14QDRG4Q1/1902723
footprint SOIC-14_NB-M
pins: 1 1A (in), 2 1Y (out), 3 2A (in), 4 2Y (out), 5 3A (in), 6 3Y (out), 7 GND (power), 8 4Y (out), 9 4A (in), 10 5Y (out), 11 5A (in), 12 6Y (out), 13 6A (in), 14 VCC (power)

## SN74LVC1G07DBVR
designator IC?
Búfer, no invertido 1 Elemento 1 Bit por elemento Drenaje abierto Output SOT-23-5; Digi_Key_Part_Number: 296-8485-1-ND; Link: https://www.digikey.com/es/products/detail/texas-instruments/SN74LVC1G07DBVR/377454; Price: 0,10; LCSC Part: C7829; Mouser Part: 595-SN74LVC1G07DBVR; Price JLCPCB: 0,05; ComponentLink1Description: IC BUFF NON-INVERT 5.5V SOT-23-5; ComponentLink1URL: https://www.digikey.com/es/products/detail/texas-instruments/SN74LVC1G07DBVR/377454; Value: SN74LVC1G07DBVR
footprint SOT95P275X110-5N
pins: 2 A, 3 GND, 4 Y, 5 VCC

## SN74LVC1G08DCKR
designator U?
AND Gate IC 1 Channel SC-70-5; Digi_Key_Part_Number: 296-11602-1-ND; Link: https://www.digikey.com/en/products/detail/texas-instruments/SN74LVC1G08DCKR/385719; Price: 0,12; ComponentLink1Description: SN74LVC1G08DCKR; ComponentLink1URL: https://www.digikey.com/en/products/detail/texas-instruments/SN74LVC1G08DCKR/385719; Value: SN74LVC1G08DCKR
footprint SOT65P210X110-5N
pins: 1 A (in), 2 B (in), 3 GND (power), 4 Y (out), 5 VCC (power)

## SN74LVC2G74DCUR
designator U?
Flip Flop 1 Element D-Type 1 Bit Positive Edge 8-VFSOP (0.091", 2.30mm Width); Digi_Key_Part_Number: 296-12755-1-ND; MF: Texas Instruments; Availability: Unavailable; Mouser-Purchase-URL: https://snapeda.com/shop?store=Mouser&id=395570; Link: https://www.digikey.com/en/products/detail/texas-instruments/SN74LVC2G74DCUR/467989; Texas_Instruments-Purchase-URL: https://snapeda.com/shop?store=Texas+Instruments&id=395570; Package: VSSOP-8 Texas Instruments; SnapEDA_Link: https://www.snapeda.com/parts/SN74LVC2G74DCUR/Texas%20Instruments/view-part/395570/?ref=snap; Price: 0,36; MP: SN74LVC2G74DCUR; ComponentLink1Description: SN74LVC2G74DCUR; ComponentLink1URL: https://www.digikey.com/en/products/detail/texas-instruments/SN74LVC2G74DCUR/467989; Value: SN74LVC2G74DCUR
footprint SOP50P310X90-8N
pins: 1 CLK (in), 2 D (in), 3 ~{Q} (out), 4 GND (power), 5 Q (out), 6 ~{CLR} (in), 7 ~{PRE} (in), 8 VCC (power)

## SN74LVC2G126DCUR_VSSOP
designator U?
Dual Bus Buffer Gate With 3-State Outputs 8-VSSOP -40 to 125; MP: SN74LVC2G126DCUR; MF: Texas Instruments; Check_prices: https://www.snapeda.com/parts/SN74LVC2G126DCUR/Texas%20Instruments/view-part/401295/?ref=eda; Price: None; SnapEDA_Link: https://www.snapeda.com/parts/SN74LVC2G126DCUR/Texas%20Instruments/view-part/401295/?ref=snap; Availability: Good; Value: *; Purchase-URL: https://pricing.snapeda.com/search/part/SN74LVC2G126DCUR/?ref=eda; Package: VSSOP-8 Texas Instruments; ComponentLink1Description: SN74LVC2G126DCUR; ComponentLink1URL: https://www.digikey.com/es/products/detail/texas-instruments/SN74LVC2G126DCUR/441091; Link: https://www.digikey.com/es/products/detail/texas-instruments/SN74LVC2G126DCUR/441091; Digi-Key_Part_Number: 296-12555-1-ND
footprint SOP50P310X90-8N
pins: 1 1OE (in), 2 1A (in), 3 2Y (out), 4 GND (power), 5 2A (in), 6 1Y (out), 7 2OE (in), 8 VCC (power)

## SSQ-122-02-G-D
designator J?
Conector de receptÃ¡culo de 44 posiciones 0,100 (2,54 mm) Orificio pasante Dorado; MP: SSQ-122-02-G-D-LL; MF: Samtec; Price: None; Purchase-URL: https://pricing.snapeda.com/search/part/SSQ-122-02-G-D-LL/?ref=eda; Package: None; Check_prices: https://www.snapeda.com/parts/SSQ-122-02-G-D-LL/Samtec/view-part/?ref=eda; Value: *; Availability: In Stock; SnapEDA_Link: https://www.snapeda.com/parts/SSQ-122-02-G-D-LL/Samtec/view-part/?ref=snap
footprint SAMTEC_SSQ-122-02-G-D
pins: 01, 02, 03, 04, 05, 06, 07, 08, 09, 10, 11, 12, 13, 14, 15, 16, 17, 18, 19, 20, 21, 22, 23, 24, 25, 26, 27, 28, 29, 30, 31, 32, 33, 34, 35, 36, 37, 38, 39, 40, 41, 42, 43, 44

## SW-PULSADOR
designator S?, comment FSMSMTR  (value not drawn)
Interruptores táctiles SPST-NO (Normalmente abierto) Activación superior Montaje en superficie; Digi_Key_Part_Number: 450-1758-1-ND; Price: 0,59; Value: FSMSMTR; ComponentLink1Description: SWITCH TACTILE SPST-NO 0.05A 24V; ComponentLink1URL: https://www.digikey.com/es/products/detail/te-connectivity-alcoswitch-switches/FSMSMTR/529671?s=N4IgTCBcDaICwFYAMBaAjAdgQDnSgcgCIgC6AvkA; Link: https://www.digikey.com/es/products/detail/te-connectivity-alcoswitch-switches/FSMSMTR/529671?s=N4IgTCBcDaICwFYAMBaAjAdgQDnSgcgCIgC6AvkA; Parameter 1: *
footprint pulsador_IT-1101NHA
pins: 1 COM, 2 NO

## SW-PUSH_CHASIS
designator S?, comment PS1057ARED
Interruptores pulsadores SPST-NO (Normalmente abierto) Estándar Montaje en panel, a presión; Digi_Key_Part_Number: EG2045-ND; Price: 1,81; Link: https://www.digikey.com/es/products/detail/e-switch/PS1057ARED/46295; ComponentLink1Description: SWITCH PUSH SPST-NO 1A 125V; ComponentLink1URL: https://www.digikey.com/es/products/detail/e-switch/PS1057ARED/46295; Value: PS1057ARED
footprint pulsador_IT-1101NHA
pins: 1 COM, 2 NO

## SW-Tactil
designator S, comment FSM6JSMATR  (value not drawn)
Interruptores táctiles SPST-NO (Normalmente abierto) Activación superior Montaje en superficie; Digi_Key_Part_Number: 450-2058-1-ND; Price: 0,49; Value: FSM6JSMATR; ComponentLink1Description: SWITCH TACTILE SPST-NO 0.05A 24V; ComponentLink1URL: https://www.digikey.com/es/products/detail/te-connectivity-alcoswitch-switches/FSM6JSMATR/2400236?s=N4IgTCBcDaIKwFoCMAWAzAdjgNkQBhAF0BfIA; Link: https://www.digikey.com/es/products/detail/te-connectivity-alcoswitch-switches/FSM6JSMATR/2400236?s=N4IgTCBcDaIKwFoCMAWAzAdjgNkQBhAF0BfIA
footprint SW_TACTIL
pins: 1 COM, 2 COM, 3 NO, 4 NO

## SW_KMR621NGLFS
designator S?, comment KMR621NG LFS  (value not drawn)
Interruptores táctiles SPST-NO (Normalmente abierto) Activación superior Montaje en superficie; Digi_Key_Part_Number: CKN10685CT-ND; Value: KMR631NG ULC LFS; Price: 0,71; Link: https://www.digikey.com/es/products/detail/KMR631NG%2520ULC%2520LFS/CKN10685DKR-ND/6035369?utm_campaign=buynow&utm_medium=aggregator&curr=usd&utm_source=octopart; ComponentLink1Description: SWITCH TACTILE SPST-NO 50MA 32V; ComponentLink1URL: https://www.digikey.com/es/products/detail/KMR631NG%2520ULC%2520LFS/CKN10685DKR-ND/6035369?utm_campaign=buynow&utm_medium=aggregator&curr=usd&utm_source=octopart
footprint SW_KMR621NGLFS
pins: 1_1 1, 1_2 1, 2_1 2, 2_2 2

## TBU_0
designator TBU?, comment TBU-DT065-200-WHCT-ND  (value not drawn)
SURGE SUPP TBU 200MA 650VIMP SMD; Supplier 1: Digi-Key; Supplier 2: Digi-Key; ComponentLink1Description: SURGE SUPP TBU DL 200MA 650VIMP; ComponentLink1URL: https://www.digikey.com/es/products/detail/bourns-inc/TBU-DT065-200-WH/2504935?s=N4IgTCBcDaICoCECqBaAInADANgKwrE0xQHUAJAYThQDk0QBdAXyA; Link: https://www.digikey.com/es/products/detail/bourns-inc/TBU-DT065-200-WH/2504935?s=N4IgTCBcDaICoCECqBaAInADANgKwrE0xQHUAJAYThQDk0QBdAXyA; Digi-Key_Part_Number: TBU-DT065-200-WHCT-ND; Supplier Part Number 1: TBU-CA065-200-WHDKR-ND; Supplier Part Number 2: TBU-DT065-200-WHDKR-ND; Value: TBU-DT065-200-WH; Price: 2.07
footprint DIOC650X400X100N
pins: 1 IN (in), 3 OUT (out)

## TEST POINT
designator J?, comment value TestPoint  (hidden comment: 36-5000-ND)
Red PC Test Point, Miniature Phosphor Bronze Silver Plating Through Hole Mounting Type; MF: Keystone Electronics; MP: 5000; Body Material: PBT,Bronze; Number of Contacts: 1; Insulation: Insulated; Outside Diameter: 2.54mm; Inside Diameter: 1.27mm; Hole Diameter: 1.6mm; Package: TO-3 3M; Availability: Unavailable; SnapEDA_Link: https://www.snapeda.com/parts/5000/Keystone%20Electronics/view-part/?ref=snap; Price: 0,40; Supplier 1: Digi-Key; Manufacturer: Keystone Electronics; Manufacturer Part Number: 5000; Stock 1: 183854; Pricing 1: 1=0.35, 10=0.335, 50=0.2438, 250=0.21032, 1000=0.1714, 2500=0.15296, 5000=0.1434 (USD); Mount: Through Hole,PCB; Color: Red; Material: Nylon,Bronze,Silver; Contact Material: Bronze; Contact Plating: Silver,Tin; Plating: Silver; Housing Color: Red; Package Quantity: 100; Packaging: Bulk; Number of Ports: 1; Orientation: Straight; Length: 7.62mm; Height: 0.3inch; REACH SVHC: No SVHC; Lead Free: Lead Free; Flammability Rating: UL94 V-0; Link: https://www.digikey.com/en/products/detail/keystone-electronics/5000/255326; Digi_Key_Part_Number: 36-5000-ND; ComponentLink1Description: PC TEST POINT MINIATURE RED; ComponentLink1URL: https://www.digikey.com/en/products/detail/keystone-electronics/5000/255326?s=N4IgTCBcDaIMwDYC0BWADBpA5AIiAugL5A; Supplier Part Number 1: 36-5000-ND
footprint TEST POINT
pins: 1